# Altium footprint library resistor-ruf.PCBLIB: 3 footprints
Each footprint in its own frame and in the unit in brackets; x right, y up, seen from the top. Pads: shape width x height; smd on the part's side, far side on the other; paste and mask are expansions set on the pad; w line width, h text height; cw(c..) or ccw(c..) is an arc to the next point about the centre after c.
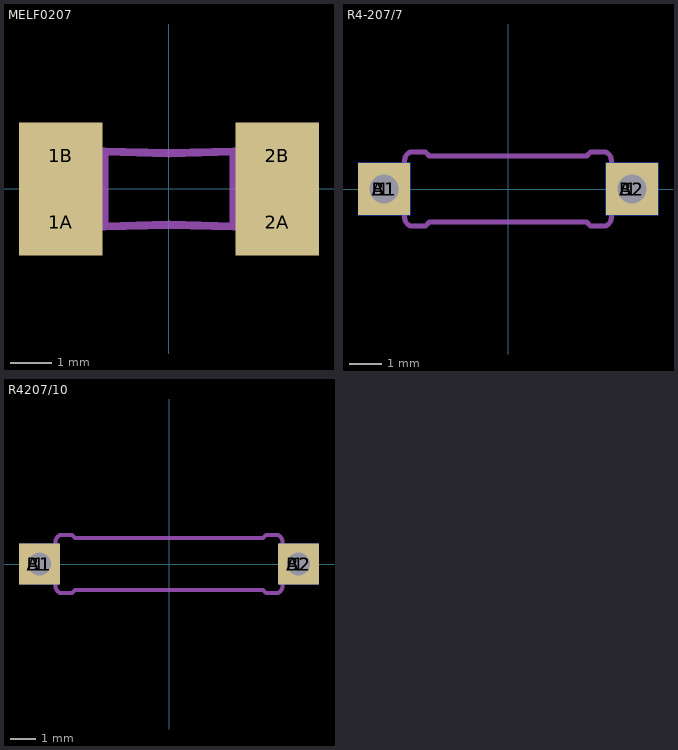
[diagram p0: the footprints below, top view; thin cyan lines are the x and y axes]

## MELF0207 [mil]
pads (4):
  rect 78.74x62.99 smd: 1A(-102.36,-31.5) 1B(-102.36,31.5) 2A(102.36,-31.5) 2B(102.36,31.5)
Mechanical 2:
  lines w8: -61.02,-35.43 0,-33.94 61.02,-35.43 ; -61.02,35.43 0,33.94 61.02,35.43
Mechanical 18:
  lines w8: -104.33,-35.43 -61.02,-35.43 -61.02,35.43 -104.33,35.43 -104.33,-35.43 ; 61.02,-35.43 104.33,-35.43 104.33,35.43 61.02,35.43 61.02,-35.43

## R4-207/7 [mil]
pads (6):
  round 35.43 hole 35.43: 1(-150,0) 1(150,0)
  rect 62.99x62.99 smd: A1(-150,0) A2(150,0)
  rect 62.99x62.99 smd far side: B1(-150,0) B2(150,0)
Mechanical 2:
  lines w6: -125,-35 ccw(c-115,-35) -115,-45 -100,-45 -95,-40 95,-40 100,-45 115,-45 ccw(c115,-35) 125,-35 ; -125,35 cw(c-115,35) -115,45 -100,45 -95,40 95,40 100,45 115,45 cw(c115,35) 125,35
Mechanical 18:
  rectangle: -135,-12 -125,12
  rectangle: 125,-12 135,12
  lines w6: -125,-35 -125,35 ; 125,-35 125,35
  lines w24: -150,0 -135,0 ; 135,0 150,0

## R4207/10 [mil]
pads (6):
  round 35.43 hole 35.43: 1(-200,0) 1(200,0)
  rect 62.99x62.99 smd: A1(-200,0) A2(200,0)
  rect 62.99x62.99 smd far side: B1(-200,0) B2(200,0)
Mechanical 2:
  lines w6: -175,-35 ccw(c-165,-35) -165,-45 -150,-45 -145,-40 145,-40 150,-45 165,-45 ccw(c165,-35) 175,-35 ; -175,35 cw(c-165,35) -165,45 -150,45 -145,40 145,40 150,45 165,45 cw(c165,35) 175,35
Mechanical 18:
  rectangle: -185,-12 -175,12
  rectangle: 175,-12 185,12
  lines w6: -175,-35 -175,35 ; 175,-35 175,35
  lines w24: -200,0 -185,0 ; 185,0 200,0